# EAGLE library part HM-10S (library Qwiic-Bluetooth-HC1x)
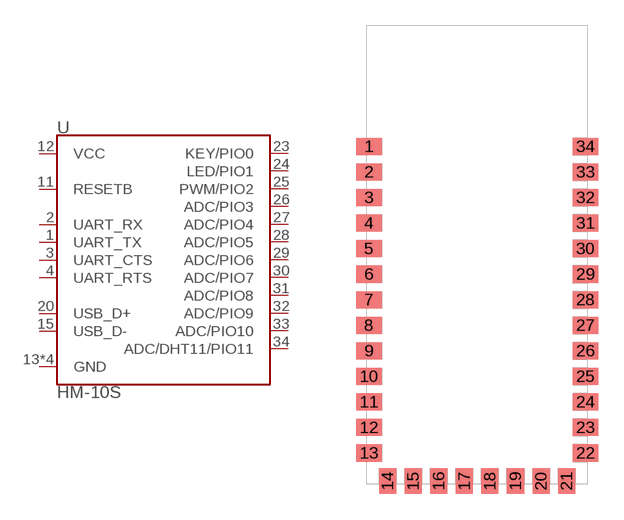
[diagram p0: symbol with the pads of HM-10; footprint HM-10]

Designator prefix U

## HM-10S  [HM-10]
1  UART_TX
2  UART_RX
3  UART_CTS
4  UART_RTS
11  RESETB
12  VCC
13  GND
14  GND
15  USB_D-
20  USB_D+
21  GND
22  GND
23  KEY/PIO0
24  LED/PIO1
25  PWM/PIO2
26  ADC/PIO3
27  ADC/PIO4
28  ADC/PIO5
29  ADC/PIO6
30  ADC/PIO7
31  ADC/PIO8
32  ADC/PIO9
33  ADC/PIO10
34  ADC/DHT11/PIO11

## Footprint HM-10 (pad centres in mm)
HM-10, HM-12, HM-16, HM-18 Bluetooth Module
smd 1.5 x 1: 1 -6.35,6.35; 2 -6.35,4.85; 3 -6.35,3.35; 4 -6.35,1.85; 5 -6.35,0.35; 6 -6.35,-1.15; 7 -6.35,-2.65; 8 -6.35,-4.15; 9 -6.35,-5.65; 10 -6.35,-7.15; 11 -6.35,-8.65; 12 -6.35,-10.15; 13 -6.35,-11.65; 22 6.35,-11.65; 23 6.35,-10.15; 24 6.35,-8.65; 25 6.35,-7.15; 26 6.35,-5.65; 27 6.35,-4.15; 28 6.35,-2.65; 29 6.35,-1.15; 30 6.35,0.35; 31 6.35,1.85; 32 6.35,3.35; 33 6.35,4.85; 34 6.35,6.35
smd 1 x 1.5: 14 -5.25,-13.3; 15 -3.75,-13.3; 16 -2.25,-13.3; 17 -0.75,-13.3; 18 0.75,-13.3; 19 2.25,-13.3; 20 3.75,-13.3; 21 5.25,-13.3